# Altium schematic symbol library Capacitors.SCHLIB: 77 symbols (part 2 of 2)
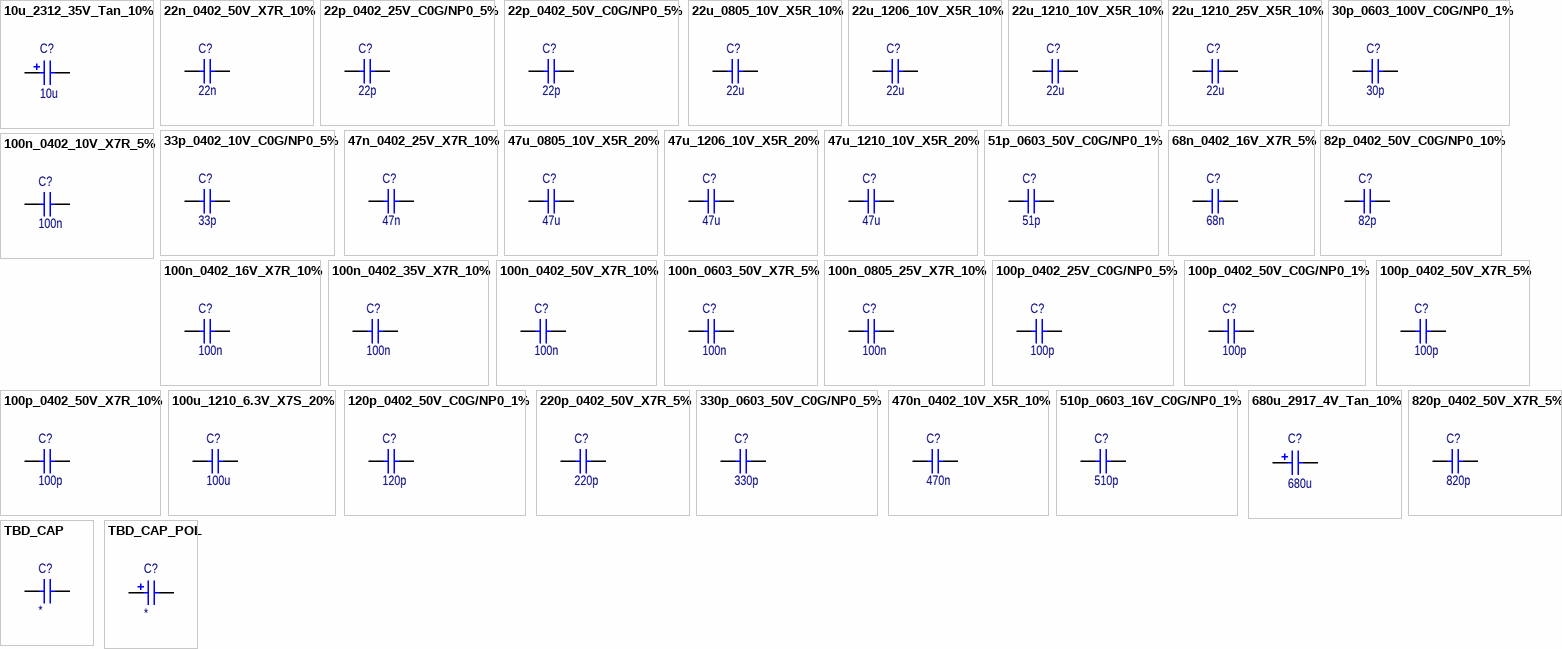
[diagram p2: symbols 10u_2312_35V_Tan_10% to TBD_CAP_POL]

## 100p_0402_50V_X7R_5%
designator C?, comment value 100p  (hidden comment: C0402C101J5RACAUTO)
Capacitor; Ceramic; 100p; 0402; 50V; X7R; 5%; -55°C ~ 125°C; Manufacturer: KEMET; Manufacturer Part Number: C0402C101J5RACAUTO; Supplier 1: DigiKey; Supplier Part Number 1: 399-17545-6-ND; ComponentLink1Description: Datasheet; ComponentLink1URL: https://content.kemet.com/datasheets/KEM_C1023_X7R_AUTO_SMD.pdf; ComponentLink2Description: Supplier Info; ComponentLink2URL: https://www.digikey.com/en/products/detail/kemet/C0402C101J5RACAUTO/8572380?s=N4IgTCBcDaIMwE4EFoCMB2ArAFk8gbMgHIAiIAugL5A
footprint CAPC0402 (Chip Capacitor; Body 1.0x0.5mm (LxW typ) [0402], IPC High Density)
pins: 1, 2
1 alternate drawing of the same symbol

## 100p_0402_50V_X7R_10%
designator C?, comment value 100p  (hidden comment: 04025C101KAT2A)
Capacitor; Ceramic; 100p; 0402; 50V; X7R; 10%; -55°C ~ 125°C; Manufacturer: AVX Corporation; Manufacturer Part Number: 04025C101KAT2A; Supplier 1: DigiKey; Supplier Part Number 1: 478-1089-6-ND; ComponentLink1Description: Datasheet; ComponentLink1URL: https://datasheets.avx.com/X7RDielectric.pdf; ComponentLink2Description: Supplier Info; ComponentLink2URL: https://www.digikey.com/en/products/detail/avx-corporation/04025C101KAT2A/563199?s=N4IgTCBcDaICwHYAcBaAjABiQThQNhQDkAREAXQF8g
footprint CAPC0402 (Chip Capacitor; Body 1.0x0.5mm (LxW typ) [0402], IPC High Density)
pins: 1, 2
1 alternate drawing of the same symbol

## 100u_1210_6.3V_X7S_20%
designator C?, comment value 100u  (hidden comment: GRM32EC70J107ME15L)
Capacitor; Ceramic; 100u; 1210; 6.3V; X7S; 20%; -55°C ~ 125°C; Manufacturer: Murata Electronics; Manufacturer Part Number: GRM32EC70J107ME15L; Supplier 1: DigiKey; Supplier Part Number 1: 490-10530-6-ND; ComponentLink1Description: Datasheet; ComponentLink1URL: https://search.murata.co.jp/Ceramy/image/img/A01X/G101/ENG/GRM32EC70J107ME15-01.pdf; ComponentLink2Description: Supplier Info; ComponentLink2URL: https://www.digikey.com/en/products/detail/murata-electronics/GRM32EC70J107ME15L/5027614?s=N4IgTCBcDaICwE4AMBaAjEgrAZlQNhQDkAREAXQF8g
footprint CAPC1210 (Chip Capacitor; Body 3.2x2.5mm (LxW typ) [1210], IPC High Density)
pins: 1, 2
1 alternate drawing of the same symbol

## 120p_0402_50V_C0G/NP0_1%
designator C?, comment value 120p  (hidden comment: CC0402FRNPO9BN121)
Capacitor; Ceramic; 120p; 0402; 50V; C0G/NP0; 1%; -55°C ~ 125°C; Manufacturer: Yageo; Manufacturer Part Number: CC0402FRNPO9BN121; Supplier 1: DigiKey; Supplier Part Number 1: 311-3727-6-ND; ComponentLink1Description: Datasheet; ComponentLink1URL: https://www.yageo.com/upload/media/product/productsearch/datasheet/mlcc/UPY-GP_NP0_16V-to-50V_18.pdf; ComponentLink2Description: Supplier Info; ComponentLink2URL: https://www.digikey.com/en/products/detail/yageo/CC0402FRNPO9BN121/5883232?s=N4IgTCBcDaIMwEYEFo4HYxuQNmQOQBEQBdAXyA
footprint CAPC0402 (Chip Capacitor; Body 1.0x0.5mm (LxW typ) [0402], IPC High Density)
pins: 1, 2
1 alternate drawing of the same symbol

## 220p_0402_50V_X7R_5%
designator C?, comment value 220p  (hidden comment: CC0402JRX7R9BB221)
Capacitor; Ceramic; 220p; 0402; 50V; X7R; 5%; -55°C ~ 125°C; Manufacturer: Yageo; Manufacturer Part Number: CC0402JRX7R9BB221; Supplier 1: DigiKey; Supplier Part Number 1: 311-3765-6-ND; ComponentLink1Description: Datasheet; ComponentLink1URL: https://www.yageo.com/upload/media/product/productsearch/datasheet/mlcc/UPY-GPHC_X7R_6.3V-to-50V_18.pdf; ComponentLink2Description: Supplier Info; ComponentLink2URL: https://www.digikey.com/en/products/detail/yageo/CC0402JRX7R9BB221/5883304?s=N4IgTCBcDaIMwEYEFo4HYBsBWZHkDkAREAXQF8g
footprint CAPC0402 (Chip Capacitor; Body 1.0x0.5mm (LxW typ) [0402], IPC High Density)
pins: 1, 2
1 alternate drawing of the same symbol

## 330p_0603_50V_C0G/NP0_5%
designator C?, comment value 330p  (hidden comment: 06035A331JAT2A)
Capacitor; Ceramic; 330p; 0603; 50V; C0G/NP0; 5%; -55°C ~ 125°C; Manufacturer: AVX Corporation; Manufacturer Part Number: 06035A331JAT2A; Supplier 1: DigiKey; Supplier Part Number 1: 478-1181-6-ND; ComponentLink1Description: Datasheet; ComponentLink1URL: https://datasheets.avx.com/C0GNP0-Dielectric.pdf; ComponentLink2Description: Supplier Info; ComponentLink2URL: https://www.digikey.com/en/products/detail/avx-corporation/06035A331JAT2A/563291?s=N4IgTCBcDaICwHYAcBaAjGpaUDYUDkAREAXQF8g
footprint CAPC0603 (Chip Capacitor; Body 1.6x0.8mm (LxW typ) [0603], IPC High Density)
pins: 1, 2
1 alternate drawing of the same symbol

## 470n_0402_10V_X5R_10%
designator C?, comment value 470n  (hidden comment: CL05A474KP5NNNC)
Capacitor; Ceramic; 470n; 0402; 10V; X5R; 10%; -55°C ~ 85°C; Manufacturer: Samsung Electro-Mechanics; Manufacturer Part Number: CL05A474KP5NNNC; Supplier 1: DigiKey; Supplier Part Number 1: 1276-1173-6-ND; ComponentLink1Description: Datasheet; ComponentLink1URL: https://www.samsungsem.com/resources/file/global/support/product_catalog/MLCC.pdf; ComponentLink2Description: Supplier Info; ComponentLink2URL: https://www.digikey.com/en/products/detail/samsung-electro-mechanics/CL05A474KP5NNNC/3886831?s=N4IgTCBcDaIIxgOwDYC0c6IMyrQOQBEQBdAXyA
footprint CAPC0402 (Chip Capacitor; Body 1.0x0.5mm (LxW typ) [0402], IPC High Density)
pins: 1, 2
1 alternate drawing of the same symbol

## 510p_0603_16V_C0G/NP0_1%
designator C?, comment value 510p  (hidden comment: C0603C511F4GACTU)
Capacitor; Ceramic; 510p; 0603; 16V; C0G/NP0; 1%; -55°C ~ 125°C; Manufacturer: KEMET; Manufacturer Part Number: C0603C511F4GACTU; Supplier 1: DigiKey; Supplier Part Number 1: 399-C0603C511F4GACTUDKR-ND; ComponentLink1Description: Datasheet; ComponentLink1URL: https://content.kemet.com/datasheets/KEM_C1003_C0G_SMD.pdf; ComponentLink2Description: Supplier Info; ComponentLink2URL: https://www.digikey.com/en/products/detail/kemet/C0603C511F4GACTU/2200928?s=N4IgTCBcDaIMwE4EFoDCAGAbOuqCsAjAQGIAsA4gIKoAqAqgCIDSASsgHIMgC6AvkA
footprint CAPC0603 (Chip Capacitor; Body 1.6x0.8mm (LxW typ) [0603], IPC High Density)
pins: 1, 2
1 alternate drawing of the same symbol

## 680u_2917_4V_Tan_10%
designator C?, comment value 680u  (hidden comment: TPME687K004R0023)
Capacitor; Tantalum; 680u; 2917; 4V; 10%; -55°C ~ 125°C; Manufacturer: AVX Corporation; Manufacturer Part Number: TPME687K004R0023; Supplier 1: DigiKey; Supplier Part Number 1: 478-1815-6-ND; ComponentLink1Description: Datasheet; ComponentLink1URL: https://datasheets.avx.com/TPM.pdf; ComponentLink2Description: Supplier Info; ComponentLink2URL: https://www.digikey.com/en/products/detail/avx-corporation/TPME687K004R0023/563918?s=N4IgTCBcDaICwHYAcBaAjEtBWFA2FAcgCIgC6AvkA
signal-integrity model Cap
simulation model CAP
footprint CAPMP2917 (Molded Capacitor; Tantalum; Body 7.3x4.3mm (LxW typ) [2917])
pins: 1, 2
1 alternate drawing of the same symbol

## 820p_0402_50V_X7R_5%
designator C?, comment value 820p  (hidden comment: 04025C821JAT2A)
Capacitor; Ceramic; 820p; 0402; 50V; X7R; 5%; -55°C ~ 125°C; Manufacturer: AVX Corporation; Manufacturer Part Number: 04025C821JAT2A; Supplier 1: DigiKey; Supplier Part Number 1: 478-10130-6-ND; ComponentLink1Description: Datasheet; ComponentLink1URL: https://datasheets.avx.com/X7RDielectric.pdf; ComponentLink2Description: Supplier Info; ComponentLink2URL: https://www.digikey.com/en/products/detail/avx-corporation/04025C821JAT2A/1597627?s=N4IgTCBcDaICwHYAcBaAjABjQZgygbCgHIAiIAugL5A
footprint CAPC0402 (Chip Capacitor; Body 1.0x0.5mm (LxW typ) [0402], IPC High Density)
pins: 1, 2
1 alternate drawing of the same symbol

## TBD_CAP
designator C?
Capacitor; Generic; Manufacturer: *; Manufacturer Part Number: *; Supplier 1: *; Supplier Part Number 1: *; ComponentLink1Description: Datasheet; ComponentLink1URL: *; ComponentLink2Description: Supplier Info; ComponentLink2URL: *; Value: *
footprint CAPC0201 (Chip Capacitor; Body 0.6x0.3mm (LxW typ) [0201], IPC High Density)
footprint CAPC0402 (Chip Capacitor; Body 1.0x0.5mm (LxW typ) [0402], IPC High Density)
footprint CAPC0603 (Chip Capacitor; Body 1.6x0.8mm (LxW typ) [0603], IPC High Density)
footprint CAPC0805 (Chip Capacitor; Body 2.0x1.3mm (LxW typ) [0805], IPC High Density)
footprint CAPC1206 (Chip Capacitor; Body 3.2x1.6mm (LxW typ) [1206], IPC High Density)
footprint CAPC1210 (Chip Capacitor; Body 3.2x2.5mm (LxW typ) [1210], IPC High Density)
pins: 1, 2
1 alternate drawing of the same symbol

## TBD_CAP_POL
designator C?
Capacitor; Generic; Polarized; Manufacturer: *; Manufacturer Part Number: *; Supplier 1: *; Supplier Part Number 1: *; ComponentLink1Description: Datasheet; ComponentLink1URL: *; ComponentLink2Description: Supplier Info; ComponentLink2URL: *; Value: *
signal-integrity model Cap
simulation model CAP
footprint CAPMP2917 (Molded Capacitor; Tantalum; Body 7.3x4.3mm (LxW typ) [2917])
footprint CAPMP0805 (Molded Capacitor; Tantalum; Body 2.0x1.3mm (LxW typ) [0805], IPC High Density)
footprint CAPMP1210 (Molded Capacitor; Tantalum; Body 3.2x2.5mm (LxW typ) [1210], IPC High Density)
footprint CAPMP2312 (Molded Capacitor; Tantalum; Body 6.0x3.2mm (LxW typ) [2312], IPC High Density)
pins: 1, 2
1 alternate drawing of the same symbol